# EAGLE library part LM393ADGKR (library custom)
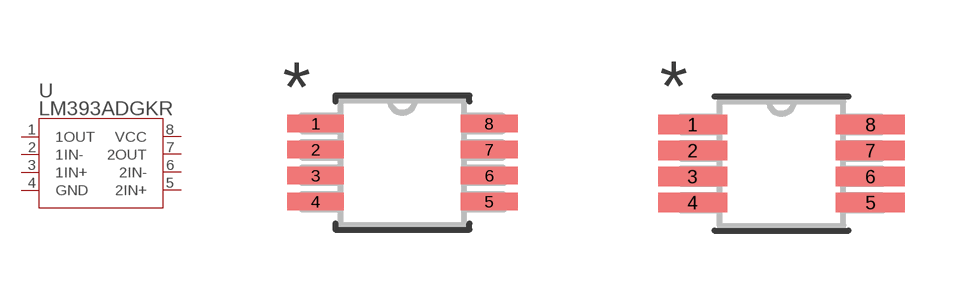
[diagram p138: symbol with the pads of DGK8; footprints DGK8, DGK8-M]

Designator prefix U

## LM393ADGKRDGK8 (MANUFACTURER_PART_NUMBER: LM393ADGKR; VENDOR: Vendor)  [DGK8]
1  1OUT  out
2  1IN-  in
3  1IN+  in
4  GND  pwr
5  2IN+  in
6  2IN-  in
7  2OUT  out
8  VCC  pwr

## LM393ADGKRDGK8-M (MANUFACTURER_PART_NUMBER: LM393ADGKR; VENDOR: Vendor)  [DGK8-M]
Pads as for DGK8

## LM393ADGKRDGK8-L (MANUFACTURER_PART_NUMBER: LM393ADGKR; VENDOR: Vendor)  [DGK8-L]
Pads as for DGK8

## LM393ADGKRDIP  [8-PDIP]
Pads as for DGK8

## Footprint DGK8 (pad centres in mm)
smd 1.422 x 0.432: 1 -2.172,0.975; 2 -2.172,0.325; 3 -2.172,-0.325; 4 -2.172,-0.975; 5 2.172,-0.975; 6 2.172,-0.325; 7 2.172,0.325; 8 2.172,0.975

## Footprint DGK8-M (pad centres in mm)
smd 1.727 x 0.483: 1 -2.223,0.975; 2 -2.223,0.325; 3 -2.223,-0.325; 4 -2.223,-0.975; 5 2.223,-0.975; 6 2.223,-0.325; 7 2.223,0.325; 8 2.223,0.975

## Footprint DGK8-L (pad centres in mm)
smd 1.118 x 0.381: 1 -2.121,0.975; 2 -2.121,0.325; 3 -2.121,-0.325; 4 -2.121,-0.975; 5 2.121,-0.975; 6 2.121,-0.325; 7 2.121,0.325; 8 2.121,0.975

## Footprint 8-PDIP (pad centres in mm)
drill 0.8 square: 1 -3.81,3.81
drill 0.8: 2 -3.81,1.27; 3 -3.81,-1.27; 4 -3.81,-3.81; 5 3.81,-3.81; 6 3.81,-1.27; 7 3.81,1.27; 8 3.81,3.81